# EAGLE library part ADP1612 (library ADP1612)
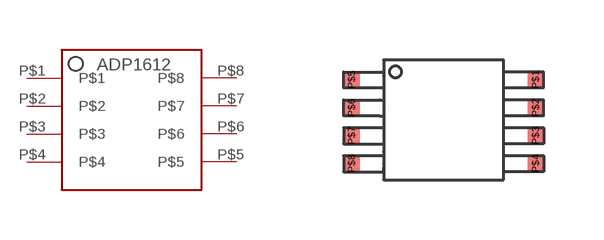
[diagram p0: symbol with the pads of ADP1612; footprint ADP1612]

Designator prefix -

## ADP1612  [ADP1612]
P$1  P$1
P$2  P$2
P$3  P$3
P$4  P$4
P$5  P$5
P$6  P$6
P$7  P$7
P$8  P$8

## Footprint ADP1612 (pad centres in mm)
smd 0.4 x 0.4: P$1 3.8,1; P$2 3.8,0.3; P$3 3.8,-0.4; P$4 3.8,-1.1; P$5 -0.8,1; P$6 -0.8,0.3; P$7 -0.8,-0.4; P$8 -0.8,-1.1